# EAGLE library part MINI_ISP (library Railstars)
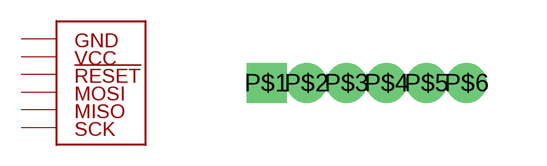
[diagram p17: symbol with the pads of 1X6_1MM; footprint 1X6_1MM]

Designator prefix J$

## MINI_ISP  [1X6_1MM]
P$1  P$1
P$2  P$2
P$3  P$3
P$4  P$4
P$5  P$5
P$6  P$6

## Footprint 1X6_1MM (pad centres in mm)
drill 0.5 pad 0.8 square: P$1 0,0
drill 0.5 pad 0.8: P$2 1,0; P$3 2,0; P$4 3,0; P$5 4,0; P$6 5,0